# EAGLE library part MOLEX_522070633 (library custom)
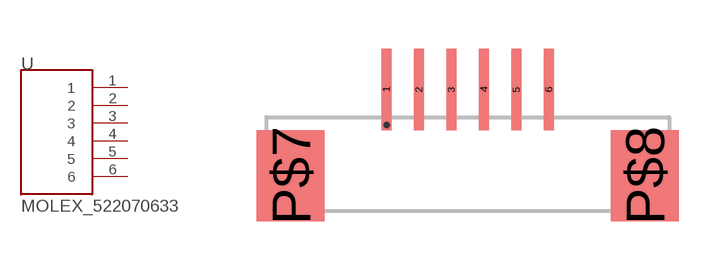
[diagram p0: symbol with the pads of MOLEX6_1MM; footprint MOLEX6_1MM]

Designator prefix -

## MOLEX_522070633  [MOLEX6_1MM]
1  1
2  2
3  3
4  4
5  5
6  6

## Footprint MOLEX6_1MM (pad centres in mm)
smd 0.32 x 2.5: 1 0,1.2; 2 1,1.2; 3 2,1.2; 4 3,1.2; 5 4,1.2; 6 5,1.2
smd 2.1 x 2.8: P$7 -2.95,-1.45; P$8 7.95,-1.45